# EAGLE library part 6180XX231421_618009231421 (library WR-DSUB)
WR-DSUB 10.30 mm Male Angled PCB Connector w. Hex Screw Kind Properties Quality Class:3 as per CECC 75 301-802 Gender:Male Type:Angled Insulator Material:PBT Insulator Flammability Rating:UL94 V-0 Color:Black Contact Material:Copper Alloy Contact Plating:Selective Gold Contact Type:Stamped Shielding Material:Steel Shielding Plating:Nickel General Information Operating Temperature:-55 up to +105 °C Compliance:RoHS Electrical Properties IR1:3 A Working Voltage:125 V (AC) Withstanding Voltage:1000 V (AC) Contact Resistance:30 mΩ <https://www.we-online.com/catalog/media/o60849v209%20Family_I-O_DSUB_PCB_Male_w-screw_6180xx231421_pf2.jpg> Details see: https://www.we-online.com/en/components/products/DSUB_MALE_ANGLED_PCB_CONNECTOR_W_HEX_SCREW_10_30MM_6180XX231421 Updated by Ella Wu 2023-03-21 2023 (C) Würth Elektronik
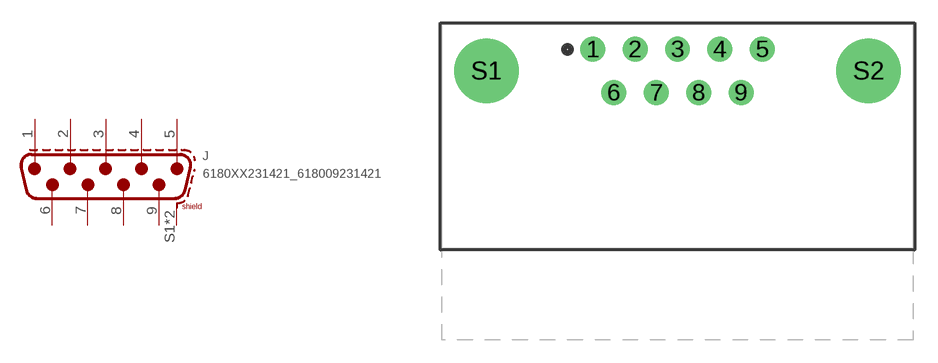
[diagram p0: symbol with the pads of 618009231421; footprint 618009231421]

Designator prefix J

## 6180XX231421_618009231421 (DATASHEET-URL: https://www.we-online.com/redexpert/spec/618009231421?ae; GENDER: Male; PART-NUMBER: 618009231421; PINS: 9; TYPE: Angled; VALUE: 618009231421; WE-NUMBER: 618009231421; WORKING-VOLTAGE: 125 V(AC))  [618009231421]
1  1
2  2
3  3
4  4
5  5
6  6
7  7
8  8
9  9
S1  SHIELD
S2  SHIELD

## Footprint 618009231421 (pad centres in mm)
WR-DSUB 10.3mm Male Angled PCB Connector with Hex Screw, 9 Pins
drill 1.09: 1 -5.54,8.715; 2 -2.77,8.715; 3 0,8.715; 4 2.77,8.715; 5 5.54,8.715; 6 -4.155,5.875; 7 -1.385,5.875; 8 1.385,5.875; 9 4.155,5.875
drill 3.2: S1 -12.495,7.295; S2 12.495,7.295